# Altium schematic symbol library SamacSys.SchLib: 2 symbols
Pins are listed as number, name and electrical type; pins without a type are passive.

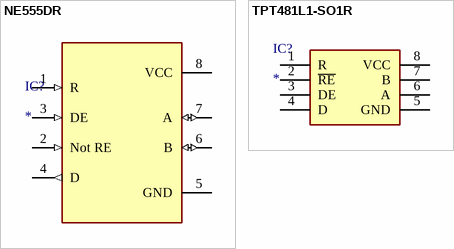
[diagram p0: symbols NE555DR to TPT481L1-SO1R]

## NE555DR
designator IC?
Integrated Circuit; Manufacturer_Name: Texas Instruments; Manufacturer_Part_Number: NE555DR; Datasheet Link: http://www.ti.com/lit/ds/symlink/ne555.pdf; Height: 1.75mm; Mouser Part Number: 595-NE555DR; Mouser Price/Stock: https://www.mouser.com/Search/Refine.aspx?Keyword=595-NE555DR; RS Part Number: 1218414; RS Price/Stock: http://uk.rs-online.com/web/p/products/1218414
footprint SOIC127P600X175-8N
pins: 1 R (in), 2 Not RE (in), 3 DE (in), 4 D (out), 5 GND (power), 6 B (io), 7 A (io), 8 VCC (power)

## TPT481L1-SO1R
designator IC?
Integrated Circuit; Manufacturer_Name: 3Peak Incorporated; Manufacturer_Part_Number: TPT481L1-SO1R; Datasheet Link: http://file.3peakic.com.cn:8080/product/Datasheet_TPT481.pdf; Height: 1.75mm
footprint SOIC127P600X175-8N
pins: 1 R, 2 ~{RE}, 3 DE, 4 D, 5 GND, 6 A, 7 B, 8 VCC